# EAGLE library part U981 (library raritaeten)
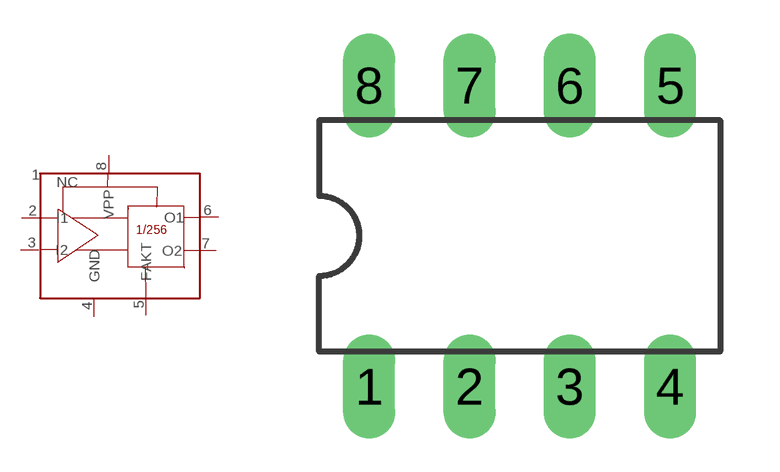
[diagram p0: symbol with the pads of DIL08; footprint DIL08]

Designator prefix -

## U981  [DIL08]
1  NC  nc
2  I1  in
3  I2  in
4  GND  sup
5  FAKT  in
6  O1  out
7  O2  out
8  VPP  pwr

## Footprint DIL08 (pad centres in mm)
Prescaler for TV and VTR purposes U891
drill 0.813 long: 1 -3.81,-3.81; 2 -1.27,-3.81; 3 1.27,-3.81; 4 3.81,-3.81; 5 3.81,3.81; 6 1.27,3.81; 7 -1.27,3.81; 8 -3.81,3.81